# Altium footprint library LPSON_OPTO.PcbLib: 3 footprints
Each footprint in its own frame and in the unit in brackets; x right, y up, seen from the top. Pads: shape width x height; smd on the part's side, far side on the other; paste and mask are expansions set on the pad; w line width, h text height; cw(c..) or ccw(c..) is an arc to the next point about the centre after c.
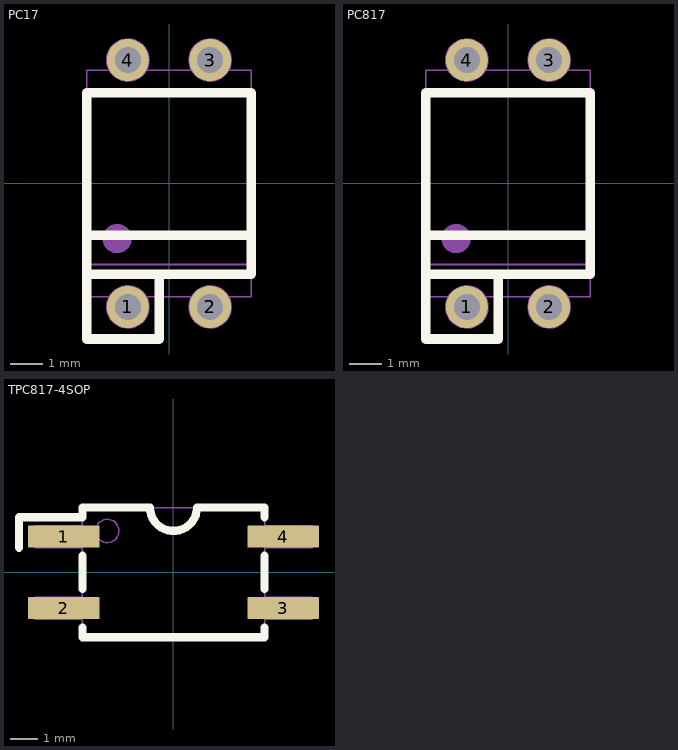
[diagram p0: the footprints below, top view; thin cyan lines are the x and y axes]

## PC17 [mm] "Photocoupler 1-channel type"
height 4
pads (4):
  round 1.3 hole 0.8 mask+0.1: 1(-1.27,-3.81) 2(1.27,-3.81) 3(1.27,3.81) 4(-1.27,3.81)
Top Overlay:
  lines w0.3: -2.54,-1.6 2.54,-1.6 ; -0.3,-2.8 -0.3,-4.8 -0.5,-4.8 -2.54,-4.8 -2.54,-2.8 ; -2.54,-2.8 2.54,-2.8 2.54,2.8 -2.54,2.8 -2.54,-2.8
Mechanical 1:
  circle w0.5: c-1.6,-1.7 r0.2
  circle w0.05: c-1.27,-3.81 r0.65
  circle w0.05: c1.27,-3.81 r0.65
  circle w0.05: c1.27,3.81 r0.65
  circle w0.05: c-1.27,3.81 r0.65
  lines w0.05: -2.54,-2.5 2.54,-2.5 ; -2.54,-3.5 2.54,-3.5 2.54,3.5 -2.54,3.5 -2.54,-3.5
  text "2" at 1,-2.3 h1.2
  text "3" at 0.9,1.7 h1.2
  text "4" at -1.8,1.7 h1.2
3D body "SW3DPS-DIP4-DEFAULT.STEP": height 4.31, standoff -3.28, extent -2.77,-4.064 2.77,3.936

## PC817 [mm] "Photocoupler 1-channel type"
height 4.5
pads (4):
  round 1.3 hole 0.8 mask+0.1: 1(-1.27,-3.81) 2(1.27,-3.81) 3(1.27,3.81) 4(-1.27,3.81)
Top Overlay:
  lines w0.3: -2.54,-1.6 2.54,-1.6 ; -0.3,-2.8 -0.3,-4.8 -0.5,-4.8 -2.54,-4.8 -2.54,-2.8 ; -2.54,-2.8 2.54,-2.8 2.54,2.8 -2.54,2.8 -2.54,-2.8
Mechanical 1:
  circle w0.5: c-1.6,-1.7 r0.2
  circle w0.05: c-1.27,-3.81 r0.65
  circle w0.05: c1.27,-3.81 r0.65
  circle w0.05: c1.27,3.81 r0.65
  circle w0.05: c-1.27,3.81 r0.65
  lines w0.05: -2.54,-2.5 2.54,-2.5 ; -2.54,-3.5 2.54,-3.5 2.54,3.5 -2.54,3.5 -2.54,-3.5
  text "2" at 1,-2.3 h1.2
  text "3" at 0.9,1.7 h1.2
  text "4" at -1.8,1.7 h1.2
3D body "SW3DPS-DIP4-DEFAULT.STEP": height 4.31, standoff -3.28, extent -2.77,-4.064 2.77,3.936

## TPC817-4SOP [mm] "OPTOISO 5KV TRANS 4SOP"
height 3.68
pads (4):
  rrect10% 2.6x0.8 smd: 1(-3.975,1.295) 2(-3.975,-1.295) 3(3.975,-1.295) 4(3.975,1.295)
Top Overlay:
  lines w0.3: -5.6,0.894 -5.6,2 -3.3,2 -3.3,2.35 -0.85,2.35 ccw(c0,2.35) 0.85,2.35 3.3,2.35 3.3,2 ; -3.3,-2 -3.3,-2.35 3.3,-2.35 3.3,-2 ; -3.3,-0.6 -3.3,0.6 ; 3.3,-0.6 3.3,0.6
Mechanical 2:
  circle w0.05: c-2.4,1.5 r0.424
  lines w0.05: -3.317,-1.695 -5.027,-1.695 -5.027,-0.896 -3.301,-0.896 ; -3.316,0.894 -3.317,0.895 -5.027,0.895 -5.027,1.694 -3.301,1.694 ; -0.85,2.35 ccw(c0,2.35) 0.85,2.35 ; 3.301,-1.694 5.027,-1.694 5.027,-0.895 3.317,-0.895 ; 3.301,0.896 5.027,0.896 5.027,1.695 3.317,1.695 ; -3.3,-2.35 -3.3,2.35 3.3,2.35 3.3,-2.35 -3.3,-2.35
  text "A" at -3,0.1 h0.8
  text "K" at -3,-1.694 h0.8
  text "C" at 2.4,0.9 h0.8
  text "E" at 2.4,-1.7 h0.8
3D body "User Library-LTV-356T.step": height 2, standoff -0.1, extent -3.5,-1.925 3.5,1.925